# EAGLE library part TPIC6595 (library TPIC6)
TPIC6C595 - Power Logic 8-Bit Shift Register (Rev. C) http://focus.ti.com/docs/prod/folders/print/tpic6c595.html The TPIC6C595 is a monolithic, medium-voltage, low-current power 8-bit shift register designed for use in systems that require relatively moderate load power such as LEDs. The device contains a built-in voltage clamp on the outputs for inductive transient protection. Power driver applications include relays, solenoids, and other low-current or medium-voltage loads. This device contains an 8-bit serial-in, parallel-out shift register that feeds an 8-bit D-type storage register. Data transfers through both the shift and storage registers on the rising edge of the shift register clock (SRCK) and the register clock (RCK), respectively. The device transfers data out the serial output (SER OUT) port on the rising edge of SRCK. The storage register transfers data to the output buffer when shift register clear (CLR\) is high. When CLR\ is low, the input shift register is cleared. When output enable (G\) is held high, all data in the output buffers is held low and all drain outputs are off. When G\ is held low, data from the storage register is transparent to the outputbuffers. When data in the output buffers is low, the DMOS transistor outputs are off. When data is high, the DMOS transistor outputs have sink-current capability. The SER OUT allows for cascading of the data from the shift register to additional devices. Outputs are low-side, open-drain DMOS transistors with output ratings of 33 V and 100 mA continuous sink-current capability. Each output provides a 250-mA maximum current limit at TC = 25°C. The current limit decreases as the junction temperature increases for additional device protection. The device also provides up to 2500 V of ESD protection when tested using the human-body model and 200 V machine model. The TPIC6C595 is characterized for operation over the operating case temperature range of ?40°C to 125°C.
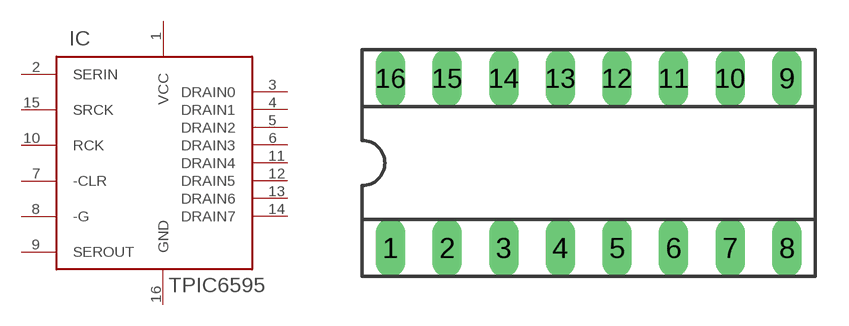
[diagram p1: symbol with the pads of SOCKED-16; footprint SOCKED-16]

Designator prefix IC

## TPIC6595  [SOCKED-16]
1  VCC  pwr
2  SERIN
3  DRAIN0
4  DRAIN1
5  DRAIN2
6  DRAIN3
7  -CLR
8  -G
9  SEROUT
10  RCK
11  DRAIN4
12  DRAIN5
13  DRAIN6
14  DRAIN7
15  SRCK
16  GND  pwr

## Footprint SOCKED-16 (pad centres in mm)
Dual In Line Socked
drill 0.813 long: 1 -8.89,-3.81; 2 -6.35,-3.81; 3 -3.81,-3.81; 4 -1.27,-3.81; 5 1.27,-3.81; 6 3.81,-3.81; 7 6.35,-3.81; 8 8.89,-3.81; 9 8.89,3.81; 10 6.35,3.81; 11 3.81,3.81; 12 1.27,3.81; 13 -1.27,3.81; 14 -3.81,3.81; 15 -6.35,3.81; 16 -8.89,3.81